# Altium schematic symbol library wireless_modules.SchLib: 10 symbols
Pins are listed as number, name and electrical type; pins without a type are passive.

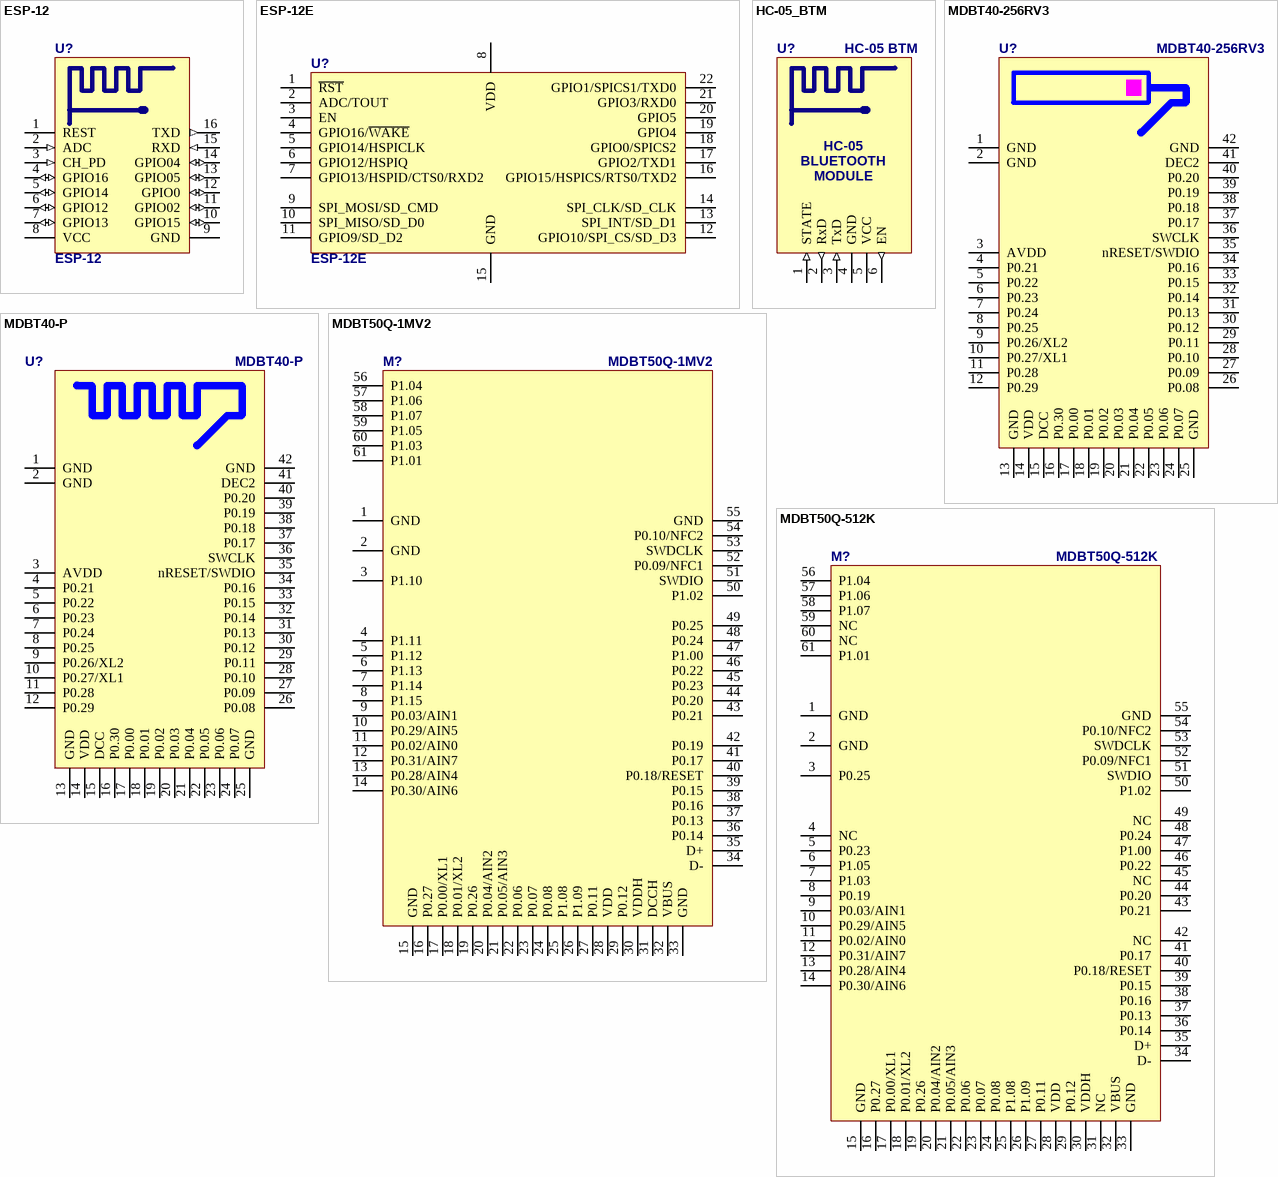
[diagram p0: symbols ESP-12 to MDBT50Q-512K]

## ESP-12
designator U?
ESP-12 Wi-Fi Module by AI-Thinker
footprint ESP-12
pins: 1 REST, 2 ADC (in), 3 CH_PD (in), 4 GPIO16 (io), 5 GPIO14 (io), 6 GPIO12 (io), 7 GPIO13 (io), 8 VCC (power), 9 GND (power), 10 GPIO15 (io), 11 GPIO02 (io), 12 GPIO0 (io), 13 GPIO05 (io), 14 GPIO04 (io), 15 RXD (in), 16 TXD (out)
1 alternate drawing of the same symbol

## ESP-12E
designator U?
ESP-12 Wi-Fi Module by AI-Thinker; IC: ESP8266-EX; Vendor: Ai-thinker
footprint ESP-12E/F
pins: 1 ~{RST} "Reset", 2 ADC/TOUT "ADC Input Or TOUT Output", 3 EN "Chip enable", 4 GPIO16/~{WAKE} "GPIO16 or Deep-Sleep Wakeup", 5 GPIO14/HSPICLK "GPIO14 or SPI CLK", 6 GPIO12/HSPIQ "GPIO12 or SPIQ", 7 GPIO13/HSPID/CTS0/RXD2 "GPIO13 or SPID", 8 VDD "Power supply", 9 SPI_MOSI/SD_CMD "GPIO14 or SPI CLK", 10 SPI_MISO/SD_D0 "GPIO12 or SPIQ", 11 GPIO9/SD_D2 "GPIO13 or SPID", 12 GPIO10/SPI_CS/SD_D3 "GPIO15 or SPICS", 13 SPI_INT/SD_D1 "GPIO2 or TX", 14 SPI_CLK/SD_CLK "GPIO0 or SPICS2", 15 GND "Power ground", 16 GPIO15/HSPICS/RTS0/TXD2 "GPIO15 or SPICS", 17 GPIO2/TXD1 "GPIO2 or TX", 18 GPIO0/SPICS2 "GPIO0 or SPICS2", 19 GPIO4 "GPIO5", 20 GPIO5 "GPIO4", 21 GPIO3/RXD0 "GPIO3 or UART RXD", 22 GPIO1/SPICS1/TXD0 "GPIO1 or UART TXD"

## HC-05_BTM
designator U?, comment HC-05 BTM
HC-05 Bluetooth Module
footprint HC-05_V (HC-05 Bluetooth Module, Mounted Vertically)
footprint HC-05_H_1 (HC-05 Bluetooth Module, Mounted Horizontally)
footprint HC-05_H_2 (HC-05 Bluetooth Module, Mounted Horizontally)
pins: 1 STATE (in), 2 RxD (out), 3 TxD (in), 4 GND (power), 5 VCC (power), 6 EN (out)
1 alternate drawing of the same symbol
text: HC-05; BLUETOOTH; MODULE

## MDBT40-256RV3
designator U?
BT 4.1 Module (Nordic nRF51822)
footprint MDBT40_10X18
pins: 1 GND, 2 GND, 3 AVDD, 4 P0.21, 5 P0.22, 6 P0.23, 7 P0.24, 8 P0.25, 9 P0.26/XL2, 10 P0.27/XL1, 11 P0.28, 12 P0.29, 13 GND, 14 VDD, 15 DCC, 16 P0.30, 17 P0.00, 18 P0.01, 19 P0.02, 20 P0.03, 21 P0.04, 22 P0.05, 23 P0.06, 24 P0.07, 25 GND, 26 P0.08, 27 P0.09, 28 P0.10, 29 P0.11, 30 P0.12, 31 P0.13, 32 P0.14, 33 P0.15, 34 P0.16, 35 nRESET/SWDIO, 36 SWCLK, 37 P0.17, 38 P0.18, 39 P0.19, 40 P0.20, 41 DEC2, 42 GND
2 alternate drawings of the same symbol

## MDBT40-P
designator U?
BT 4.1 Module (Nordic nRF51822)
footprint MDBT40-P_10X18
pins: 1 GND, 2 GND, 3 AVDD, 4 P0.21, 5 P0.22, 6 P0.23, 7 P0.24, 8 P0.25, 9 P0.26/XL2, 10 P0.27/XL1, 11 P0.28, 12 P0.29, 13 GND, 14 VDD, 15 DCC, 16 P0.30, 17 P0.00, 18 P0.01, 19 P0.02, 20 P0.03, 21 P0.04, 22 P0.05, 23 P0.06, 24 P0.07, 25 GND, 26 P0.08, 27 P0.09, 28 P0.10, 29 P0.11, 30 P0.12, 31 P0.13, 32 P0.14, 33 P0.15, 34 P0.16, 35 nRESET/SWDIO, 36 SWCLK, 37 P0.17, 38 P0.18, 39 P0.19, 40 P0.20, 41 DEC2, 42 GND
1 alternate drawing of the same symbol

## MDBT50Q-1MV2
designator M?
nRF52840 BT5 Module with Chip Antenna
footprint MDBT50Q_10.5X15.5
pins: 1 GND, 2 GND, 3 P1.10, 4 P1.11, 5 P1.12, 6 P1.13, 7 P1.14, 8 P1.15, 9 P0.03/AIN1, 10 P0.29/AIN5, 11 P0.02/AIN0, 12 P0.31/AIN7, 13 P0.28/AIN4, 14 P0.30/AIN6, 15 GND, 16 P0.27, 17 P0.00/XL1, 18 P0.01/XL2, 19 P0.26, 20 P0.04/AIN2, 21 P0.05/AIN3, 22 P0.06, 23 P0.07, 24 P0.08, 25 P1.08, 26 P1.09, 27 P0.11, 28 VDD, 29 P0.12, 30 VDDH, 31 DCCH, 32 VBUS, 33 GND, 34 D-, 35 D+, 36 P0.14, 37 P0.13, 38 P0.16, 39 P0.15, 40 P0.18/RESET, 41 P0.17, 42 P0.19, 43 P0.21, 44 P0.20, 45 P0.23, 46 P0.22, 47 P1.00, 48 P0.24, 49 P0.25, 50 P1.02, 51 SWDIO, 52 P0.09/NFC1, 53 SWDCLK, 54 P0.10/NFC2, 55 GND, 56 P1.04, 57 P1.06, 58 P1.07, 59 P1.05, 60 P1.03, 61 P1.01

## MDBT50Q-512K
designator M?
nRF52833 BT5 Module with Chip Antenna
footprint MDBT50Q_10.5X15.5
pins: 1 GND, 2 GND, 3 P0.25, 4 NC, 5 P0.23, 6 P1.05, 7 P1.03, 8 P0.19, 9 P0.03/AIN1, 10 P0.29/AIN5, 11 P0.02/AIN0, 12 P0.31/AIN7, 13 P0.28/AIN4, 14 P0.30/AIN6, 15 GND, 16 P0.27, 17 P0.00/XL1, 18 P0.01/XL2, 19 P0.26, 20 P0.04/AIN2, 21 P0.05/AIN3, 22 P0.06, 23 P0.07, 24 P0.08, 25 P1.08, 26 P1.09, 27 P0.11, 28 VDD, 29 P0.12, 30 VDDH, 31 NC, 32 VBUS, 33 GND, 34 D-, 35 D+, 36 P0.14, 37 P0.13, 38 P0.16, 39 P0.15, 40 P0.18/RESET, 41 P0.17, 42 NC, 43 P0.21, 44 P0.20, 45 NC, 46 P0.22, 47 P1.00, 48 P0.24, 49 NC, 50 P1.02, 51 SWDIO, 52 P0.09/NFC1, 53 SWDCLK, 54 P0.10/NFC2, 55 GND, 56 P1.04, 57 P1.06, 58 P1.07, 59 NC, 60 NC, 61 P1.01

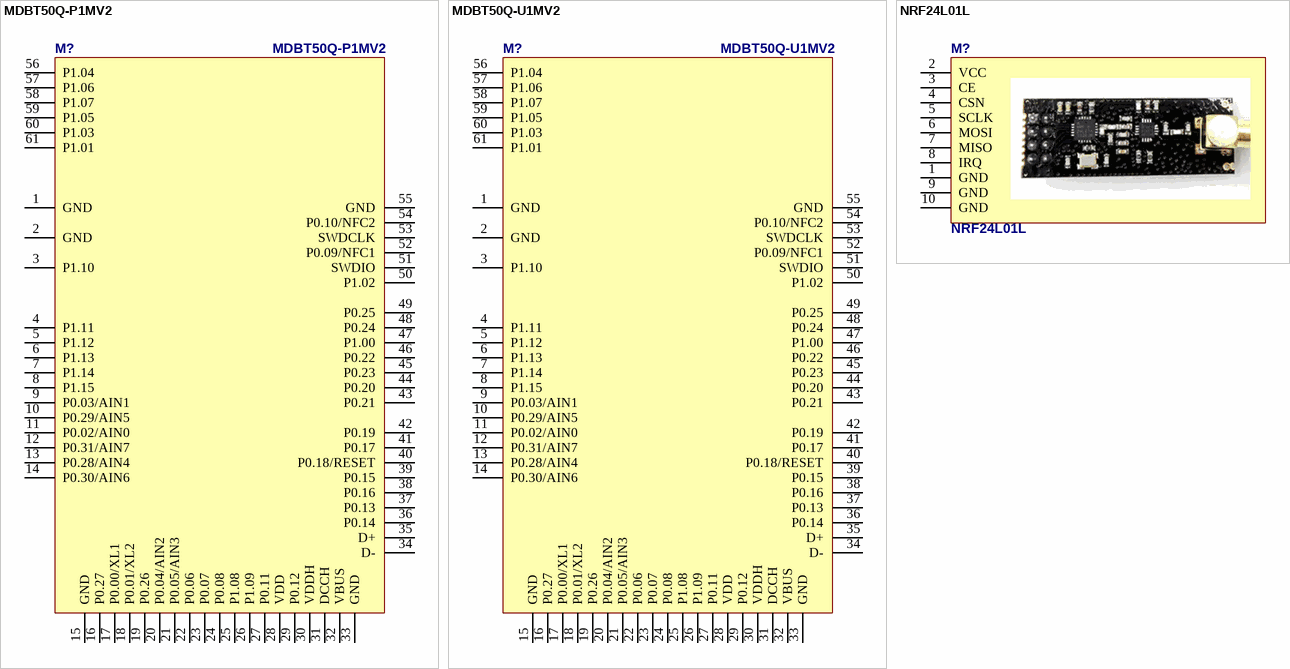
[diagram p1: symbols MDBT50Q-P1MV2 to NRF24L01L]

## MDBT50Q-P1MV2
designator M?
nRF52840 BT5 Module with PCB Antenna
footprint MDBT50Q-P_10.5X15.5
pins: 1 GND, 2 GND, 3 P1.10, 4 P1.11, 5 P1.12, 6 P1.13, 7 P1.14, 8 P1.15, 9 P0.03/AIN1, 10 P0.29/AIN5, 11 P0.02/AIN0, 12 P0.31/AIN7, 13 P0.28/AIN4, 14 P0.30/AIN6, 15 GND, 16 P0.27, 17 P0.00/XL1, 18 P0.01/XL2, 19 P0.26, 20 P0.04/AIN2, 21 P0.05/AIN3, 22 P0.06, 23 P0.07, 24 P0.08, 25 P1.08, 26 P1.09, 27 P0.11, 28 VDD, 29 P0.12, 30 VDDH, 31 DCCH, 32 VBUS, 33 GND, 34 D-, 35 D+, 36 P0.14, 37 P0.13, 38 P0.16, 39 P0.15, 40 P0.18/RESET, 41 P0.17, 42 P0.19, 43 P0.21, 44 P0.20, 45 P0.23, 46 P0.22, 47 P1.00, 48 P0.24, 49 P0.25, 50 P1.02, 51 SWDIO, 52 P0.09/NFC1, 53 SWDCLK, 54 P0.10/NFC2, 55 GND, 56 P1.04, 57 P1.06, 58 P1.07, 59 P1.05, 60 P1.03, 61 P1.01

## MDBT50Q-U1MV2
designator M?
nRF52840 BT5 Module with u.FL connector
footprint MDBT50Q-U_10.5X15.5
pins: 1 GND, 2 GND, 3 P1.10, 4 P1.11, 5 P1.12, 6 P1.13, 7 P1.14, 8 P1.15, 9 P0.03/AIN1, 10 P0.29/AIN5, 11 P0.02/AIN0, 12 P0.31/AIN7, 13 P0.28/AIN4, 14 P0.30/AIN6, 15 GND, 16 P0.27, 17 P0.00/XL1, 18 P0.01/XL2, 19 P0.26, 20 P0.04/AIN2, 21 P0.05/AIN3, 22 P0.06, 23 P0.07, 24 P0.08, 25 P1.08, 26 P1.09, 27 P0.11, 28 VDD, 29 P0.12, 30 VDDH, 31 DCCH, 32 VBUS, 33 GND, 34 D-, 35 D+, 36 P0.14, 37 P0.13, 38 P0.16, 39 P0.15, 40 P0.18/RESET, 41 P0.17, 42 P0.19, 43 P0.21, 44 P0.20, 45 P0.23, 46 P0.22, 47 P1.00, 48 P0.24, 49 P0.25, 50 P1.02, 51 SWDIO, 52 P0.09/NFC1, 53 SWDCLK, 54 P0.10/NFC2, 55 GND, 56 P1.04, 57 P1.06, 58 P1.07, 59 P1.05, 60 P1.03, 61 P1.01

## NRF24L01L
designator M?
Long Range Wireless Module R2 (1.1KM, PA+SMA)
footprint NRF24L01L
pins: 1 GND, 2 VCC, 3 CE, 4 CSN, 5 SCLK, 6 MOSI, 7 MISO, 8 IRQ, 9 GND, 10 GND